# Altium schematic symbol library B_S-1WR3.SchLib: 23 symbols
Pins are listed as number, name and electrical type; pins without a type are passive.

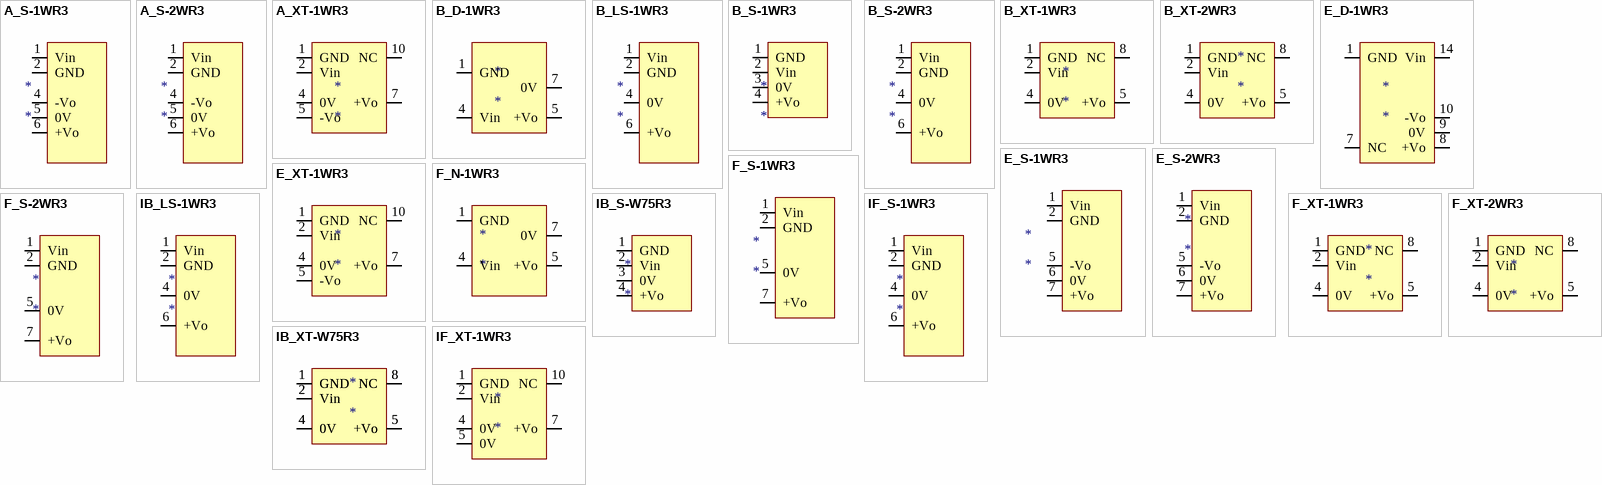
[diagram p0: symbols A_S-1WR3 to IF_XT-1WR3]

## A_S-1WR3
designator *
pins: 1 Vin, 2 GND, 4 -Vo, 5 0V, 6 +Vo

## A_S-2WR3
designator *
pins: 1 Vin, 2 GND, 4 -Vo, 5 0V, 6 +Vo

## A_XT-1WR3
designator *
pins: 1 GND, 2 Vin, 4 0V, 5 -Vo, 7 +Vo, 10 NC

## B_D-1WR3
designator *
pins: 1 GND, 4 Vin, 5 +Vo, 7 0V

## B_LS-1WR3
designator *
pins: 1 Vin, 2 GND, 4 0V, 6 +Vo

## B_S-1WR3
designator *
pins: 1 GND, 2 Vin, 3 0V, 4 +Vo

## B_S-2WR3
designator *
pins: 1 Vin, 2 GND, 4 0V, 6 +Vo

## B_XT-1WR3
designator *
pins: 1 GND, 2 Vin, 4 0V, 5 +Vo, 8 NC

## B_XT-2WR3
designator *
pins: 1 GND, 2 Vin, 4 0V, 5 +Vo, 8 NC

## E_D-1WR3
designator *
pins: 1 GND, 7 NC, 8 +Vo, 9 0V, 10 -Vo, 14 Vin

## E_S-1WR3
designator *
pins: 1 Vin, 2 GND, 5 -Vo, 6 0V, 7 +Vo

## E_S-2WR3
designator *
pins: 1 Vin, 2 GND, 5 -Vo, 6 0V, 7 +Vo

## E_XT-1WR3
designator *
pins: 1 GND, 2 Vin, 4 0V, 5 -Vo, 7 +Vo, 10 NC

## F_N-1WR3
designator *
pins: 1 GND, 4 Vin, 5 +Vo, 7 0V

## F_S-1WR3
designator *
pins: 1 Vin, 2 GND, 5 0V, 7 +Vo

## F_S-2WR3
designator *
pins: 1 Vin, 2 GND, 5 0V, 7 +Vo

## F_XT-1WR3
designator *
pins: 1 GND, 2 Vin, 4 0V, 5 +Vo, 8 NC

## F_XT-2WR3
designator *
pins: 1 GND, 2 Vin, 4 0V, 5 +Vo, 8 NC

## IB_LS-1WR3
designator *
pins: 1 Vin, 2 GND, 4 0V, 6 +Vo

## IB_S-W75R3
designator *
pins: 1 GND, 2 Vin, 3 0V, 4 +Vo

## IB_XT-W75R3
designator *
pins: 1 GND, 1 GND, 2 Vin, 2 Vin, 4 0V, 4 0V, 5 +Vo, 5 +Vo, 8 NC, 8 NC

## IF_S-1WR3
designator *
pins: 1 Vin, 2 GND, 4 0V, 6 +Vo

## IF_XT-1WR3
designator *
pins: 1 GND, 2 Vin, 4 0V, 5 0V, 7 +Vo, 10 NC